# Altium schematic symbol library NXP Semiconductors.SchLib: 4 symbols
Pins are listed as number, name and electrical type; pins without a type are passive.

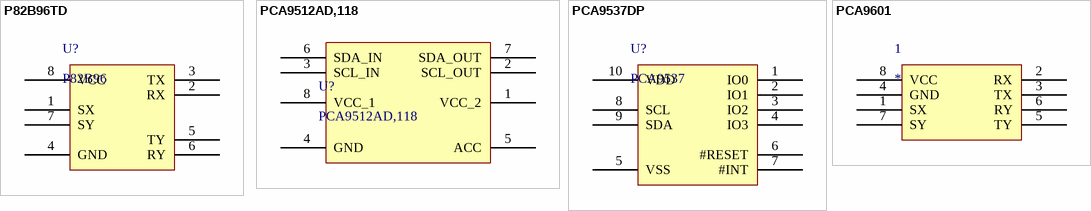
[diagram p0: symbols P82B96TD to PCA9601]

## P82B96TD
designator U?, comment P82B96
pins: 1 SX, 2 RX, 3 TX, 4 GND, 5 TY, 6 RY, 7 SY, 8 VCC

## PCA9512AD,118
designator U?
pins: 1 VCC_2, 2 SCL_OUT, 3 SCL_IN, 4 GND, 5 ACC, 6 SDA_IN, 7 SDA_OUT, 8 VCC_1

## PCA9537DP
designator U?, comment PCA9537
pins: 1 IO0, 2 IO1, 3 IO2, 4 IO3, 5 VSS, 6 #RESET, 7 #INT, 8 SCL, 9 SDA, 10 VDD

## PCA9601
designator 1
pins: 1 SX, 2 RX, 3 TX, 4 GND, 5 TY, 6 RY, 7 SY, 8 VCC